# Altium schematic symbol library Connectors.SchLib: 3 symbols
Pins are listed as number, name and electrical type; pins without a type are passive.

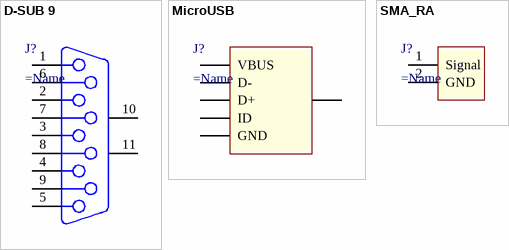
[diagram p0: symbols D-SUB 9 to SMA_RA]

## D-SUB 9
designator J?
D-SUB 9
pins: 1, 2, 3, 4, 5, 6, 7, 8, 9, 10, 11

## MicroUSB
designator J?
MicroUSB
pins: 1 VBUS, 2 D-, 3 D+, 4 ID, 5 GND, 6

## SMA_RA
designator J?
SMA_RA
pins: 1 Signal, 2 GND